# Altium footprint library TO-220(bend2).PcbLib: 1 footprints
Each footprint in its own frame and in the unit in brackets; x right, y up, seen from the top. Pads: shape width x height; smd on the part's side, far side on the other; paste and mask are expansions set on the pad; w line width, h text height; cw(c..) or ccw(c..) is an arc to the next point about the centre after c.
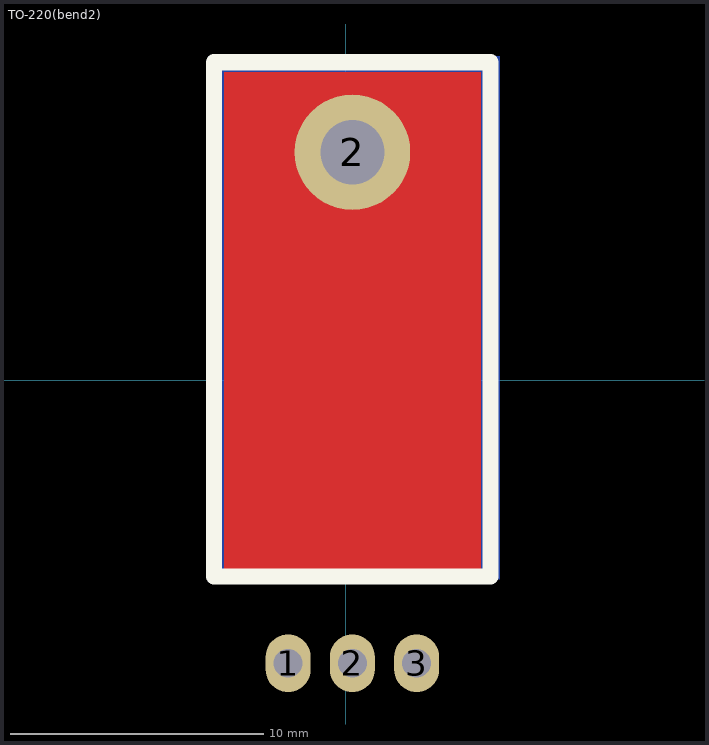
[diagram p0: the footprint, top view; thin cyan lines are the x and y axes]

## TO-220(bend2) [mil]
pads (4):
  oval 70x90 hole 45: 1(-90,-440) 2(10,-440) 3(110,-440)
  round 180 hole 100: 2(10,355)
Top Layer:
  rectangle: -190,-300 210,480
Bottom Layer:
  rectangle: -215,-310 240,505
Top Overlay:
  lines w25: -205,-305 225,-305 225,495 -205,495 -205,-305
Top Paste:
  rectangle: -200,-300 220,490
Top Solder:
  rectangle: -200,-300 220,490
3D body "TO220 (bend) 2.STEP": height 179.25, standoff 4.25, extent -185,-446.04 207.5,476.04